# Altium schematic symbol library USB_Con.SchLib: 3 symbols
Pins are listed as number, name and electrical type; pins without a type are passive.

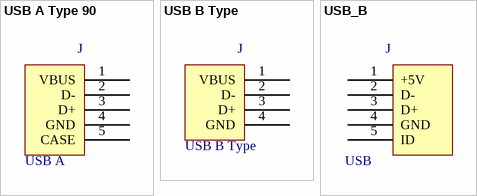
[diagram p0: symbols USB A Type 90 to USB_B]

## USB A Type 90
designator J  value USB A  (hidden comment: *)
Manufacturer: ASSMANN WSW; Manufacturer Code: A-USB-A-E-R; Unit Price: 1,49 €
footprint USB A Type 90-2 (Footprint not found)
pins: 1 VBUS, 2 D-, 3 D+, 4 GND, 5 CASE

## USB B Type
designator J  value USB B Type  (hidden comment: *)
footprint USB B Type
pins: 1 VBUS, 2 D-, 3 D+, 4 GND

## USB_B
designator J  value USB  (hidden comment: *)
Manufacturer: MULTICOMP; Manufacturer Code: MC32598; Farnell Code: 1696539; Unit Price: 1,07 €
footprint Mini USB B
pins: 1 +5V, 2 D-, 3 D+, 4 GND, 5 ID